# Altium footprint library Footprint_Testpoint.PcbLib: 7 footprints
Each footprint in its own frame and in the unit in brackets; x right, y up, seen from the top. Pads: shape width x height; smd on the part's side, far side on the other; paste and mask are expansions set on the pad; w line width, h text height; cw(c..) or ccw(c..) is an arc to the next point about the centre after c.
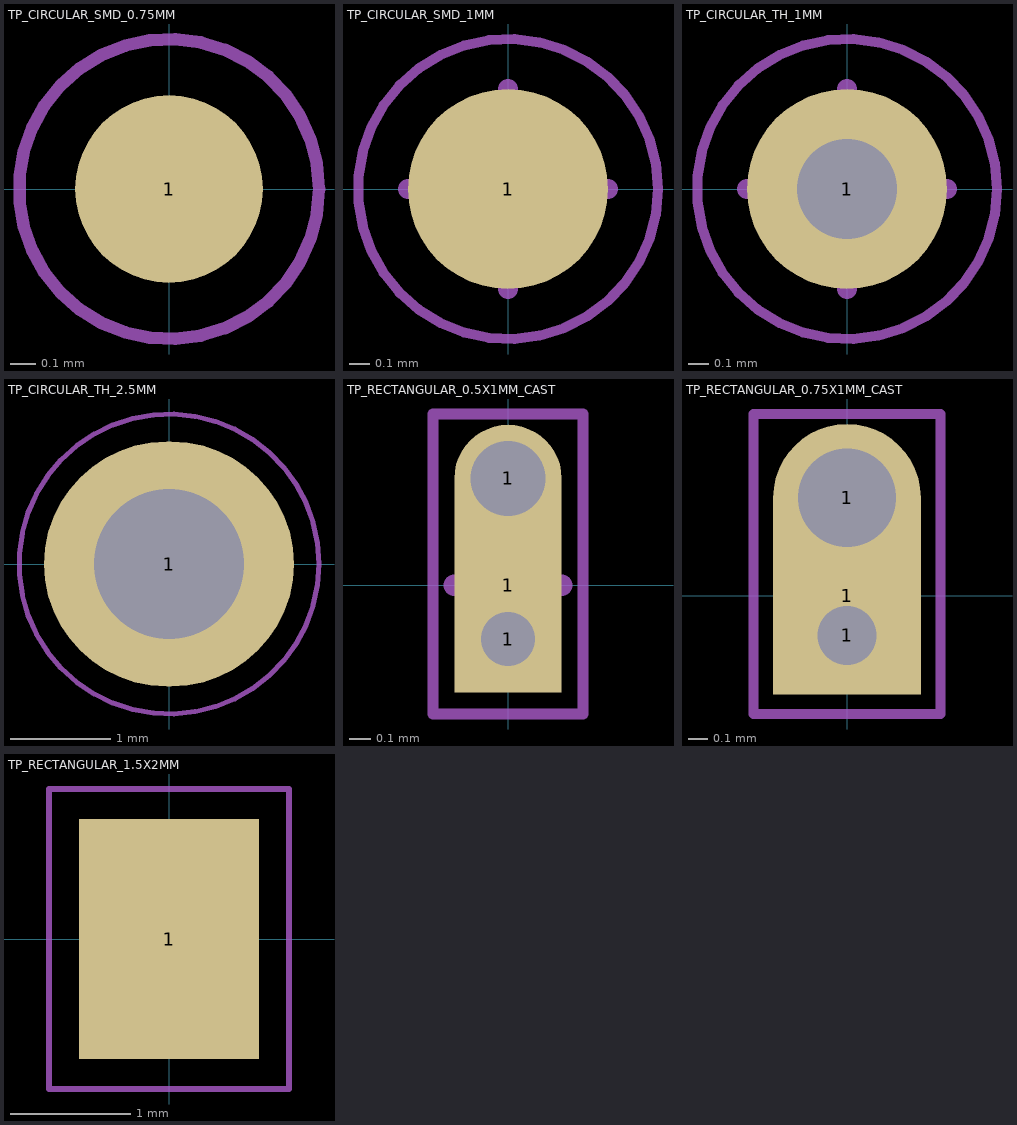
[diagram p0: the footprints below, top view; thin cyan lines are the x and y axes]

## TP_CIRCULAR_SMD_0.75MM [mm]
pads (1):
  round 0.75 smd: 1(0,0)
Top Courtyard:
  circle w0.05: c0,0 r0.6
  lines w0.1: -0.25,0 0.25,0 ; 0,-0.25 0,0.25

## TP_CIRCULAR_SMD_1MM [mm]
pads (1):
  round 1 smd: 1(0,0)
Top Courtyard:
  circle w0.05: c0,0 r0.75
  lines w0.1: -0.5,0 0.5,0 ; 0,-0.5 0,0.5

## TP_CIRCULAR_TH_1MM [mm]
pads (1):
  round 1 hole 0.5: 1(0,0)
Top Courtyard:
  circle w0.05: c0,0 r0.75
  lines w0.1: -0.5,0 0.5,0 ; 0,-0.5 0,0.5

## TP_CIRCULAR_TH_2.5MM [mm]
pads (1):
  oval 2.5x2.45 hole 1.5: 1(0,0)
Top Courtyard:
  circle w0.05: c0,0 r1.5
  lines w0.1: -0.5,0 0.5,0 ; 0,-0.5 0,0.5

## TP_RECTANGULAR_0.5X1MM_CAST [mm]
pads (3):
  round 0.5 hole 0.254 paste+0 mask+0: 1(0,-0.25)
  rect 0.5x1 smd mask+0.05: 1(0,0)
  round 0.5 hole 0.35 paste+0 mask+0: 1(0,0.5)
Top Courtyard:
  lines w0.05: -0.35,-0.6 0.35,-0.6 0.35,0.8 -0.35,0.8 -0.35,-0.6
  lines w0.1: -0.25,0 0.25,0 ; 0,-0.25 0,0.25

## TP_RECTANGULAR_0.75X1MM_CAST [mm]
pads (3):
  round 0.6 hole 0.3 paste+0 mask+0: 1(0,-0.2)
  rect 0.75x1 smd mask+0.05: 1(0,0)
  round 0.75 hole 0.5 paste+0 mask+0: 1(0,0.5)
Top Courtyard:
  lines w0.05: -0.475,-0.6 -0.475,0.925 0.475,0.925 0.475,-0.6 -0.475,-0.6
  lines w0.1: -0.25,0 0.25,0 ; 0,-0.25 0,0.25

## TP_RECTANGULAR_1.5X2MM [mm]
pads (1):
  rect 1.5x2 smd mask+0.05: 1(0,0)
Top Courtyard:
  lines w0.05: -1,-1.25 1,-1.25 1,1.25 -1,1.25 -1,-1.25
  lines w0.1: -0.25,0 0.25,0 ; 0,-0.25 0,0.25